# EAGLE library part CURRENTPLANK_STCS2A_STCS2A (library Particle)
2 A max constant current LED driver
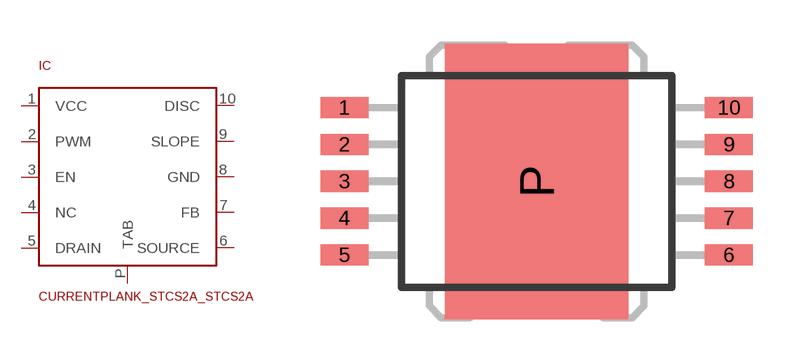
[diagram p3: symbol with the pads of CURRENTPLANK_STCS2A_POWER-SO10; footprint CURRENTPLANK_STCS2A_POWER-SO10]

Designator prefix IC

## CURRENTPLANK_STCS2A_STCS2A  [CURRENTPLANK_STCS2A_POWER-SO10]
1  VCC  pwr
2  PWM  in
3  EN  in
4  NC  nc
5  DRAIN  in
6  SOURCE  out
7  FB  in
8  GND  pwr
9  SLOPE  pas
10  DISC  out
P  TAB  pwr

## Footprint CURRENTPLANK_STCS2A_POWER-SO10 (pad centres in mm)
Power SO-10 http://eu.st.com/stonline/ 3732.pdf and 5691.pdf
smd 1.65 x 0.73: 1 -6.625,2.54; 2 -6.625,1.27; 3 -6.625,0; 4 -6.625,-1.27; 5 -6.625,-2.54; 6 6.625,-2.54; 7 6.625,-1.27; 8 6.625,0; 9 6.625,1.27; 10 6.625,2.54
smd 6.3 x 9.5: P 0,0